# EAGLE library part 08JQ- (library Project-H10)
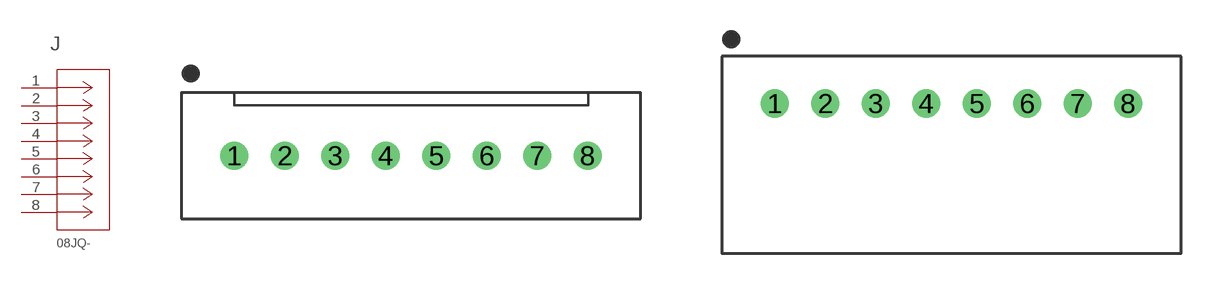
[diagram p1: symbol with the pads of 08JQ-BT_JST; footprints 08JQ-BT_JST, CONN_08JQ-ST_JST]

Designator prefix J

## 08JQ-BT  [08JQ-BT_JST]
1  1  pas
2  2  pas
3  3  pas
4  4  pas
5  5  pas
6  6  pas
7  7  pas
8  8  pas

## 08JQ-ST  [CONN_08JQ-ST_JST]
Pads as for 08JQ-BT_JST

## Footprint 08JQ-BT_JST (pad centres in mm)
drill 0.889 pad 1.397: 1 0,0; 2 2.5,0; 3 5,0; 4 7.5,0; 5 10,0; 6 12.5,0; 7 15,0; 8 17.5,0

## Footprint CONN_08JQ-ST_JST (pad centres in mm)
drill 0.889 pad 1.397: 1 0,0; 2 2.5,0; 3 5,0; 4 7.5,0; 5 10,0; 6 12.5,0; 7 15,0; 8 17.5,0